# EAGLE library part CORTEX-DEBUG (library IntegerLabs)
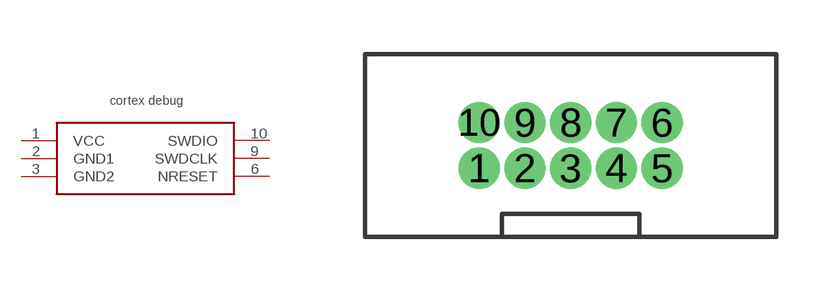
[diagram p14: symbol with the pads of HEADER-10-.05; footprint HEADER-10-.05]

Designator prefix -

## CORTEX-DEBUG  [HEADER-10-.05]
1  VCC
2  GND1
3  GND2
6  NRESET
9  SWDCLK
10  SWDIO

## Footprint HEADER-10-.05 (pad centres in mm)
drill 0.635 pad 1.016: 1 -2.54,-0.635; 2 -1.27,-0.635; 3 0,-0.635; 4 1.27,-0.635; 5 2.54,-0.635; 6 2.54,0.635; 7 1.27,0.635; 8 0,0.635; 9 -1.27,0.635; 10 -2.54,0.635